# EAGLE library part 620307124022 (library Wurth_Elektronik_Electromechanic_Wire_to_Board_Connectors_rev15c)
WR-WTB 2.00mm SMT Male Vertical Shrouded Header, 7 Pins=>Code : Con_WTB_2.00_PCB_SMT_620307124022 <http://katalog.we-online.de/media/thumbs2/eican/thb_Con_WTB_2.00_PCB_SMT_6203xx124022_pf2.jpg> Details see: http://katalog.we-online.de/en/em/620_3xx_124_022 Created 2014-06-05, Karrer Zheng 2014 (C) Würth Elektronik
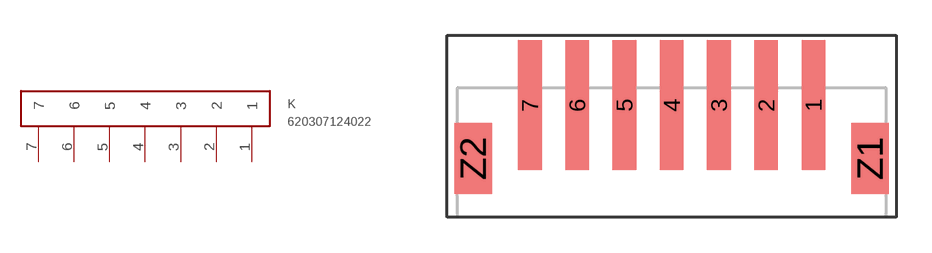
[diagram p36: symbol with the pads of 620307124022; footprint 620307124022]

Designator prefix K

## 620307124022  [620307124022]
1  1
2  2
3  3
4  4
5  5
6  6
7  7

## Footprint 620307124022 (pad centres in mm)
WR-WTB 2.00mm SMT Male Vertical Shrouded Header, 7 Pins
smd 1 x 5.5: 1 1,0; 2 -1,0; 3 -3,0; 4 -5,0; 5 -7,0; 6 -9,0; 7 -11,0
smd 1.6 x 3: Z1 3.4,-2.25; Z2 -13.4,-2.25